# Altium integrated library Control_Board_Model_C201.IntLib: 169 symbols (part 4 of 6)
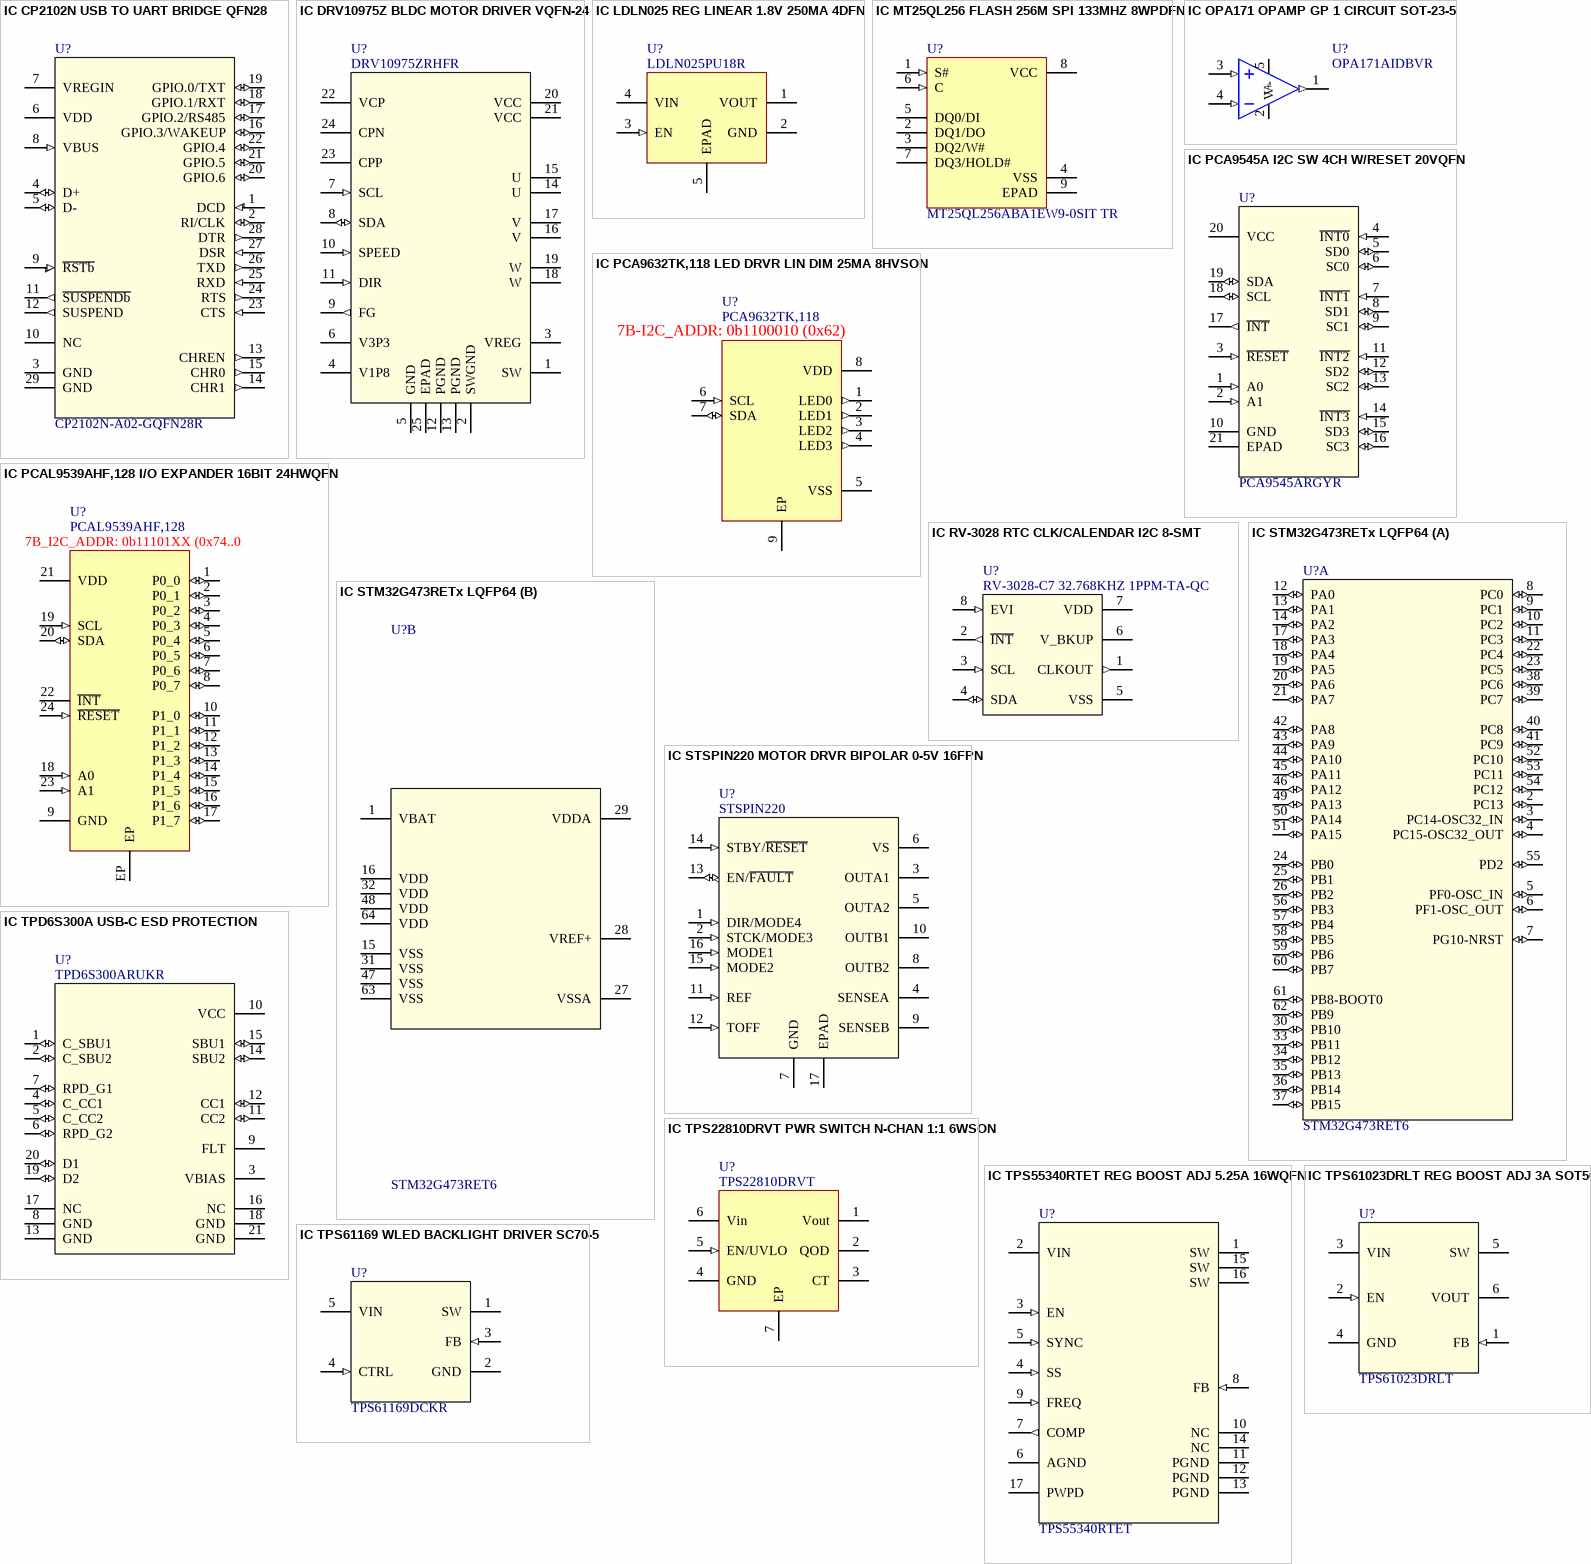
[diagram p8: symbols IC CP2102N USB TO UART BRIDGE QFN28 to IC TPS61169 WLED BACKLIGHT DRIVER SC70-5]

## IC TPS61023DRLT REG BOOST ADJ 3A SOT563
designator U?, comment TPS61023DRLT
Boost Switching Regulator IC Positive Adjustable 2.2V 1 Output 3A SOT-563, SOT-666; Manufacturer: Texas Instruments; Input Voltage: 0.5 V to 5.5 V; Input Voltage MAX: 5.5 V; Output Current: 3.7 A; Output Voltage: 2.2 V to 5.5 V; Quiescent Current: 0.9 uA; Switching Frequency: 1 MHz; Development Kit: TPS61023EVM-052; Input Voltage MIN: 0.5 V; Product Status: New Product; Supplier 1: Mouser; Manufacturer Part Number: TPS61023DRLT; RoHS: RoHS Compliant; Category: Switching Voltage Regulators; Stock 1: 196; Pricing 1: 1=1.07, 10=0.902, 100=0.693, 250=0.612, 500=0.580, 1000=0.451, 2500=0.429, 5000=0.413, 10000=0.400 (USD); Height: 0.55 mm; Length: 1.6 mm; Number of Outputs: 1 Output; Package / Case: SOT-5X3-6; Packaging: Cut Tape; Series: TPS61023; Width: 1.2 mm; Brand: Texas Instruments; Mounting Style: SMD/SMT; Shutdown: Shutdown; Topology: Boost; Maximum Operating Temperature: + 125 C; Minimum Operating Temperature: - 40 C; Product Type: Switching Voltage Regulators; Standard Pack Qty: 250; Subcategory: PMIC - Power Management ICs; Supply Voltage - Min: 0.5 V; RoHS - Mouser: Y; Minimum Order Quantity: 1; Reeling: True; Supplier 2: Digi-Key; Supplier Part Number 1: 595-TPS61023DRLT; Supplier Part Number 2: 296-TPS61023DRLTCT-ND; Mount: Surface Mount
footprint SOT50P160X60-6N (Footprint not found)
pins: 1 FB (in), 2 EN (in), 3 VIN (power), 4 GND (power), 5 SW (power), 6 VOUT (power)

## IC TPS61169 WLED BACKLIGHT DRIVER SC70-5
designator U?, comment TPS61169DCKR
LED Driver IC 1 Output DC DC Regulator Step-Up (Boost) PWM Dimming 1.8A (Switch) SC-70-5; Manufacturer: Texas Instruments; Number of Outputs: 1; Output Current: 400mA; Output Voltage: 38V; Max Output Current: 2.4A; Switching Frequency: 1.2MHz; Max Input Voltage: 5.5V; Min Input Voltage: 2.7V; Output Type: Frequency; Nominal Input Voltage (DC): 3.6V; Supplier 1: Digi-Key; Manufacturer Part Number: TPS61169DCKR; Stock 1: 112915; Pricing 1: 1=0.9, 10=0.805, 25=0.7644, 100=0.587, 250=0.5187, 500=0.4914, 1000=0.3822 (USD); Case/Package: SC; Number of Pins: 5; Min Operating Temperature: -40°C; Max Operating Temperature: 85°C; Packaging: Tape and Reel; Package Quantity: 3000; Min Output Voltage: 2.7V; Max Output Voltage: 38V; Topology: Boost; Lead Free: Lead Free; REACH SVHC: No SVHC; ComponentLink1URL: http://www.ti.com/general/docs/lit/getliterature.tsp?genericPartNumber=TPS61169&&fileType=pdf&src-supplier=Element14; ComponentLink1Description: http://www.ti.com/general/docs/lit/getliterature.tsp?genericPartNumber=TPS61169&&fileType=pdf&src-supplier=Element14; ComponentLink2URL: http://www.ti.com/general/docs/lit/getliterature.tsp?genericPartNumber=TPS61169&amp;&amp;fileType=pdf&src-supplier=Farnell; ComponentLink2Description: http://www.ti.com/general/docs/lit/getliterature.tsp?genericPartNumber=TPS61169&amp;&amp;fileType=pdf&src-supplier=Farnell; ComponentLink3URL: http://www.ti.com/lit/ds/symlink/tps61169.pdf?src-supplier=Digi-Key; ComponentLink3Description: http://www.ti.com/lit/ds/symlink/tps61169.pdf?src-supplier=Digi-Key; ComponentLink4URL: http://www.ti.com/general/docs/lit/getliterature.tsp?genericPartNumber=TPS61169&&fileType=pdf&src-supplier=Avnet; ComponentLink4Description: http://www.ti.com/general/docs/lit/getliterature.tsp?genericPartNumber=TPS61169&&fileType=pdf&src-supplier=Avnet; Supplier Part Number 1: 296-40821-1-ND; Mount: Surface Mount; Weight: 0.000705oz; Contact Plating: Gold; Number of Channels: 1; Max Supply Voltage: 5.5V; Output Current per Channel: 1.8A; Frequency: 1.2MHz; Max Input Voltage (DC): 5.5V; Dimming: PWM; Length: 2mm; Height: 1.1mm; Width: 1.25mm; ComponentLink5URL: http://www.ti.com/lit/gpn/tps61169?src-supplier=Mouser; ComponentLink5Description: http://www.ti.com/lit/gpn/tps61169?src-supplier=Mouser
footprint DCK0005A_L
pins: 1 SW (power), 2 GND (power), 3 FB (in), 4 CTRL (in), 5 VIN (power)

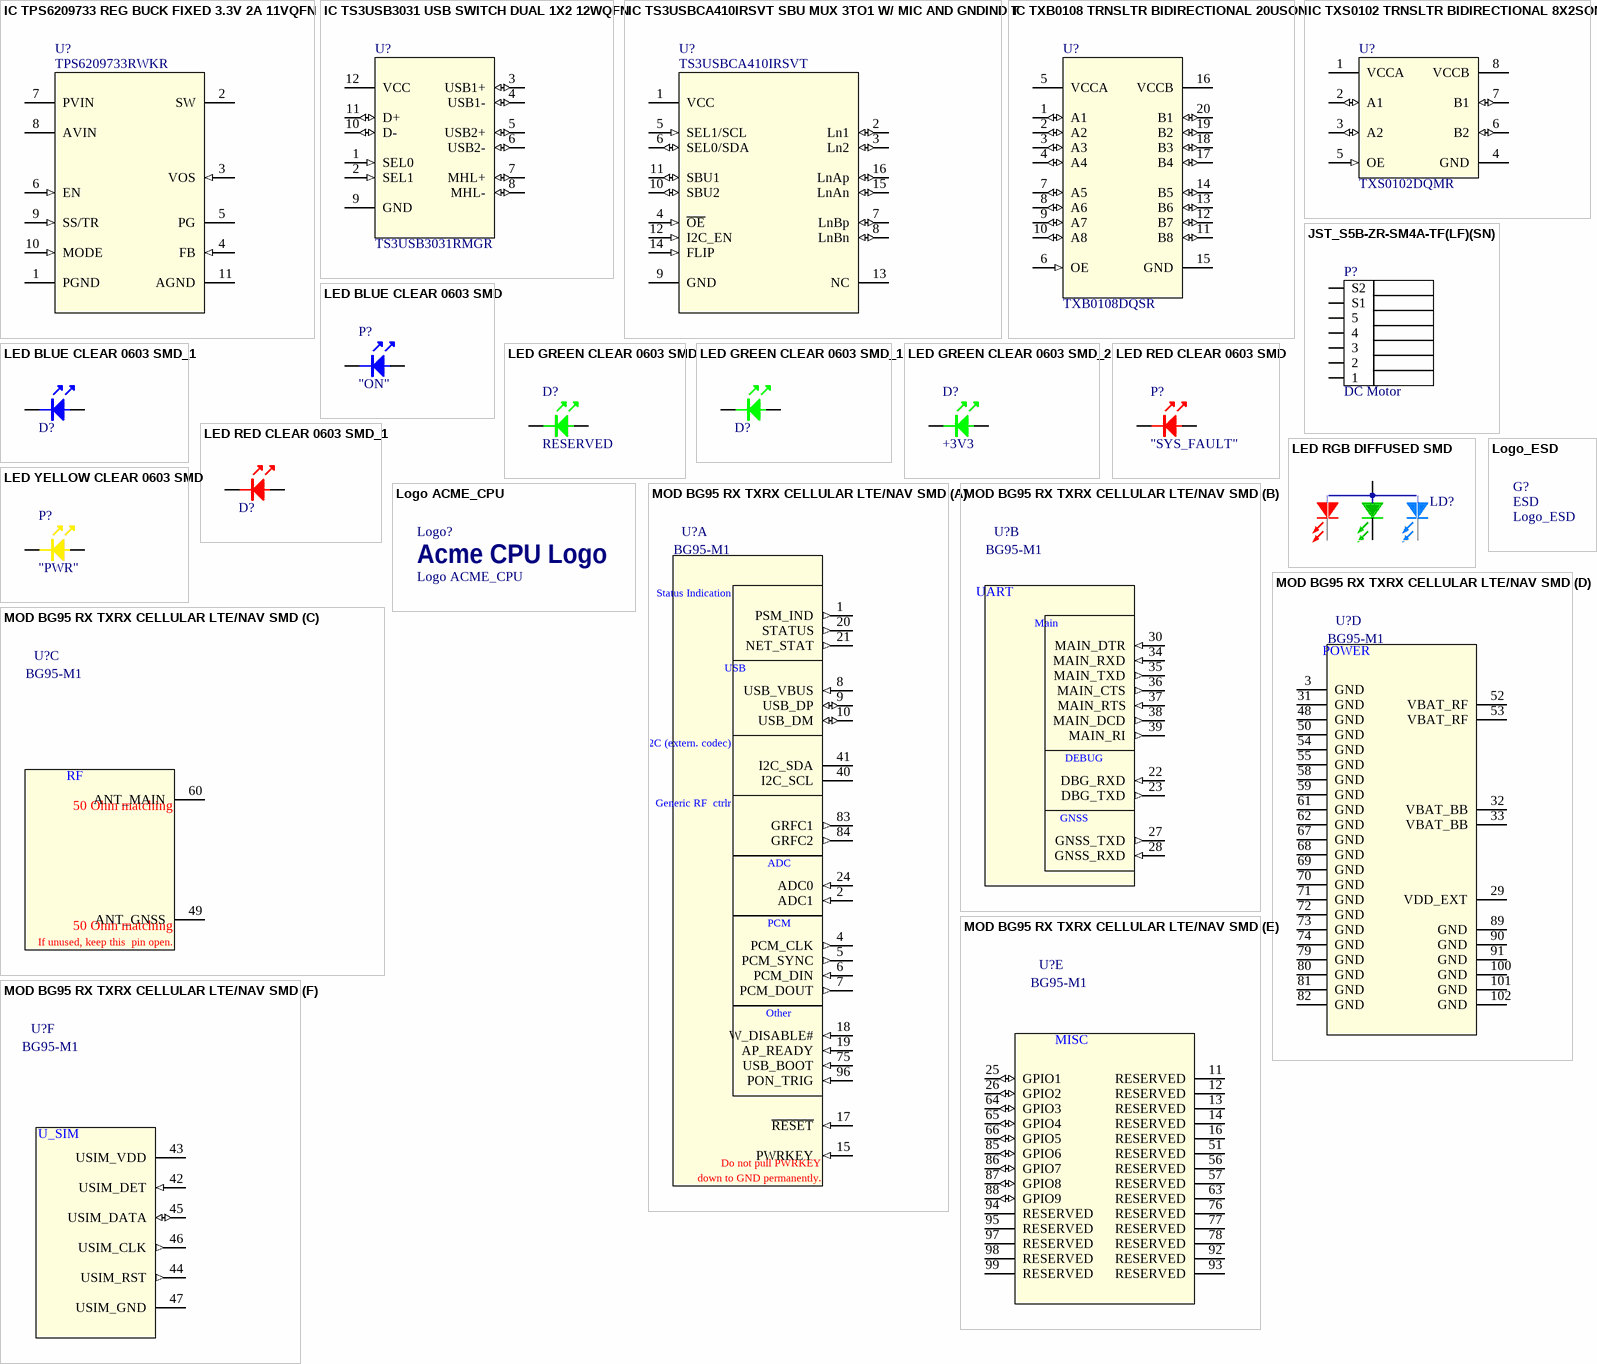
[diagram p3: symbols IC TPS6209733 REG BUCK FIXED 3.3V 2A 11VQFN to MOD BG95 RX TXRX CELLULAR LTE/NAV SMD]

## IC TPS6209733 REG BUCK FIXED 3.3V 2A 11VQFN
designator U?, comment TPS6209733RWKR
Buck Switching Regulator IC Positive Fixed 3.3V 1 Output 2A 11-VFQFN; Manufacturer: Texas Instruments; Number of Outputs: 1; Max Input Voltage: 6V; Min Input Voltage: 2.5V; Switching Frequency: 2.5MHz; Synchronous Rectifier: Yes; Quiescent Current: 40uA; ComponentLink1URL: http://www.ti.com/lit/gpn/tps62097?src-supplier=Mouser; ComponentLink1Description: http://www.ti.com/lit/gpn/tps62097?src-supplier=Mouser; Supplier 1: Digi-Key; Manufacturer Part Number: TPS6209733RWKR; Stock 1: 1536; Pricing 1: 1=1.74, 10=1.561, 100=1.1783, 500=1.0016, 1000=0.7954 (USD); Number of Pins: 11; Min Operating Temperature: -40°C; Max Operating Temperature: 125°C; Packaging: Tape and Reel; Output Current: 2A; Min Output Voltage: 3.3V; Output Type: Fixed; Output Configuration: Positive; Lead Free: Lead Free; Supplier Part Number 1: 296-49007-1-ND; Mount: Surface Mount; Case/Package: VQFN; ComponentLink2URL: http://www.ti.com/lit/ds/symlink/tps62097.pdf?src-supplier=Digi-Key; ComponentLink2Description: http://www.ti.com/lit/ds/symlink/tps62097.pdf?src-supplier=Digi-Key
footprint RWK11
pins: 1 PGND (power), 2 SW (power), 3 VOS (in), 4 FB (in), 5 PG (oc), 6 EN (in), 7 PVIN (power), 8 AVIN (power), 9 SS/TR (in), 10 MODE (in), 11 AGND (power)

## IC TS3USB3031 USB SWITCH DUAL 1X2 12WQFN
designator U?, comment TS3USB3031RMGR
USB Switch IC 1 Channel 12-WQFN (1.8x1.8); Manufacturer: Texas Instruments; Bandwidth: 6.5 GHz; Configuration: 1 x DP3T; Off Time - Max: 0.1 ns; On Resistance - Max: 7 Ohms; On Time - Max: 100 us; Development Kit: TS3USB3031EVM; Number of Switches: 2 Switch; Operating Supply Current: 40 uA; Operating Supply Voltage: 2.5 V; Supply Voltage - Max: 4.3 V; Switch Continuous Current: 60 mA; Supplier 1: Mouser; Manufacturer Part Number: TS3USB3031RMGR; RoHS: RoHS Compliant; Category: USB Switch ICs; Stock 1: 14547; Pricing 1: 1=1.16, 10=0.980, 100=0.753, 250=0.666, 500=0.630, 1000=0.490, 3000=0.466, 6000=0.448, 9000=0.434 (USD); Package / Case: WQFN-12; Packaging: Cut Tape; Product: USB 2.0, MHL, MyDP Switches; Series: TS3USB3031; Brand: Texas Instruments; Mounting Style: SMD/SMT; Maximum Operating Temperature: + 85 C; Minimum Operating Temperature: - 40 C; Product Type: USB Switch ICs; Standard Pack Qty: 3000; Subcategory: Switch ICs; Supply Voltage - Min: 2.5 V; RoHS - Mouser: Y; Minimum Order Quantity: 1; Reeling: True; ComponentLink1URL: https://www.ti.com/lit/gpn/ts3usb3031; ComponentLink1Description: Data sheet; Supplier 2: Digi-Key; Supplier Part Number 1: 595-TS3USB3031RMGR; Supplier Part Number 2: 296-41018-1-ND; Mount: Surface Mount
footprint RMG12_TEX
pins: 1 SEL0 (in), 2 SEL1 (in), 3 USB1+ (io), 4 USB1- (io), 5 USB2+ (io), 6 USB2- (io), 7 MHL+ (io), 8 MHL- (io), 9 GND (power), 10 D- (io), 11 D+ (io), 12 VCC (power)

## IC TS3USBCA410IRSVT SBU MUX 3TO1 W/ MIC AND GNDIND T
designator U?, comment TS3USBCA410IRSVT
USB Switch IC 1 Channel 16-UQFN (2.6x1.8); Manufacturer: Texas Instruments; Number of Channels: 3; Supplier 1: Digi-Key; Manufacturer Part Number: TS3USBCA410IRSVT; Stock 1: 250; Pricing 1: 1=1.07, 10=0.959, 25=0.91, 100=0.6988 (USD); ComponentLink1URL: https://www.ti.com/lit/gpn/ts3usbca4; ComponentLink1Description: Datasheet; Supplier Part Number 1: 296-52158-1-ND; Min Operating Temperature: -40°C; Max Operating Temperature: 85°C; Mount: Surface Mount
footprint RSV16_TEX
pins: 1 VCC (power), 2 Ln1 (io), 3 Ln2 (io), 4 ~{OE} (in), 5 SEL1/SCL (in), 6 SEL0/SDA (io), 7 LnBp (io), 8 LnBn (io), 9 GND (power), 10 SBU2 (io), 11 SBU1 (io), 12 I2C_EN (in), 13 NC, 14 FLIP (in), 15 LnAn (io), 16 LnAp (io)

## IC TXB0108 TRNSLTR BIDIRECTIONAL 20USON
designator U?, comment TXB0108DQSR
Voltage Level Translator Bidirectional 1 Circuit 8 Channel 100Mbps 20-USON (4x2); Manufacturer: Texas Instruments; Propagation Delay: 4ns; Min Supply Voltage: 1.2V; Max Supply Voltage: 5.5V; Number of Channels: 8; High Level Output Current: -20uA; Low Level Output Current: 20uA; Turn-On Delay Time: 35.6ns; Quiescent Current: 3.5uA; Supplier 1: Digi-Key; Manufacturer Part Number: TXB0108DQSR; Stock 1: 18752; Pricing 1: 1=1.29, 10=1.151, 25=1.092, 100=0.897, 250=0.8385, 500=0.741, 1000=0.585 (USD); Mount: Surface Mount; Number of Pins: 20; Min Operating Temperature: -40°C; Max Operating Temperature: 85°C; Data Rate: 100Mbps; Packaging: Tape and Reel; Package Quantity: 1; Logic Function: Translator; Number of Bits: 8; Number of Inputs: 8; Radiation Hardening: No; Lead Free: Lead Free; REACH SVHC: No SVHC; ComponentLink1URL: http://www.ti.com/general/docs/lit/getliterature.tsp?genericPartNumber=TXB0108&amp;&amp;fileType=pdf&src-supplier=Element14; ComponentLink1Description: http://www.ti.com/general/docs/lit/getliterature.tsp?genericPartNumber=TXB0108&amp;&amp;fileType=pdf&src-supplier=Element14; ComponentLink2URL: http://www.ti.com/general/docs/suppproductinfo.tsp?distId=10&gotoUrl=http%3A%2F%2Fwww.ti.com%2Flit%2Fgpn%2Ftxb0108&src-supplier=Digi-Key; ComponentLink2Description: http://www.ti.com/general/docs/suppproductinfo.tsp?distId=10&gotoUrl=http%3A%2F%2Fwww.ti.com%2Flit%2Fgpn%2Ftxb0108&src-supplier=Digi-Key; ComponentLink3URL: http://www.ti.com/lit/ds/symlink/txb0108.pdf?src-supplier=Avnet+Europe; ComponentLink3Description: http://www.ti.com/lit/ds/symlink/txb0108.pdf?src-supplier=Avnet+Europe; ComponentLink4URL: http://www.ti.com/general/docs/lit/getliterature.tsp?genericPartNumber=TXB0108&&fileType=pdf&src-supplier=Avnet; ComponentLink4Description: http://www.ti.com/general/docs/lit/getliterature.tsp?genericPartNumber=TXB0108&&fileType=pdf&src-supplier=Avnet; Supplier Part Number 1: 296-27217-1-ND
footprint DQS20_TEX
pins: 1 A1 (io), 2 A2 (io), 3 A3 (io), 4 A4 (io), 5 VCCA (power), 6 OE (in), 7 A5 (io), 8 A6 (io), 9 A7 (io), 10 A8 (io), 11 B8 (io), 12 B7 (io), 13 B6 (io), 14 B5 (io), 15 GND (power), 16 VCCB (power), 17 B4 (io), 18 B3 (io), 19 B2 (io), 20 B1 (io)

## IC TXS0102 TRNSLTR BIDIRECTIONAL 8X2SON
designator U?, comment TXS0102DQMR
2-Bit Bidirectional Voltage-Level Translator for Open-Drain Application; Manufacturer: Texas Instruments; Max Supply Voltage: 5.5V; Min Supply Voltage: 1.65V; Propagation Delay: 260ns; Data Rate: 24Mbps; Number of Channels: 2; Turn-On Delay Time: 4.6ns; Low Level Output Current: 1mA; High Level Output Current: -20uA; Quiescent Current: 14.4uA; Supplier 1: Digi-Key; Manufacturer Part Number: TXS0102DQMR; Stock 1: 53273; Pricing 1: 1=0.69, 10=0.611, 25=0.5736, 100=0.4681, 250=0.4348, 500=0.37, 1000=0.296 (USD); Mount: Surface Mount; Number of Pins: 8; Contact Plating: Gold; Min Operating Temperature: -40°C; Max Operating Temperature: 85°C; Packaging: Tape and Reel; Package Quantity: 1; Logic Function: Translator; Number of Bits: 2; Number of Inputs: 2; Output Type: Voltage; Length: 1.85mm; Height: 0.35mm; Width: 1.25mm; Radiation Hardening: No; REACH SVHC: No SVHC; Lead Free: Lead Free; ComponentLink1URL: https://www.verical.com/server-webapp/html/getDatasheet?partID=544149&src-supplier=Verical; ComponentLink1Description: https://www.verical.com/server-webapp/html/getDatasheet?partID=544149&src-supplier=Verical; ComponentLink2URL: http://www.ti.com/general/docs/suppproductinfo.tsp?distId=10&gotoUrl=http%3A%2F%2Fwww.ti.com%2Flit%2Fgpn%2Ftxs0102&src-supplier=Digi-Key; ComponentLink2Description: http://www.ti.com/general/docs/suppproductinfo.tsp?distId=10&gotoUrl=http%3A%2F%2Fwww.ti.com%2Flit%2Fgpn%2Ftxs0102&src-supplier=Digi-Key; Supplier Part Number 1: 296-28435-1-ND
footprint DQM8
pins: 1 VCCA (power), 2 A1 (io), 3 A2 (io), 4 GND (power), 5 OE (in), 6 B2 (io), 7 B1 (io), 8 VCCB (power)

## JST_S5B-ZR-SM4A-TF(LF)(SN)
designator P?, comment DC Motor
Connector Header Through Hole, Right Angle 4 position 0.059" (1.50mm); Manufacturer: JST; Manufacturer Part Number: S5B-ZR-SM4A-TF(LF)(SN); Body Plating: Tin; Number of Positions: 4; Connector Type: Header,Male Pin; Voltage Rating: 50V; Contact Resistance: 30mR; Max Current Rating: 1A; Insulation Resistance: 500MR; Gender: Male; Pitch: 1.5mm; Panel Thickness: 3.5mm; Supplier 1: Arrow; Stock 1: 0; Mount: SMT; Number of Pins: 4; Color: White; Contact Plating: Tin,Copper; Contact Material: Brass,Tin,Copper; Material: Nylon; Housing Color: Beige; Housing Material: Polyamide; Contact Shape: Circular; Insulation Material: Nylon; Insulation Color: Natural; Min Operating Temperature: -25°C; Max Operating Temperature: 85°C; Packaging: Bulk; Number of Rows: 1; Termination: Solder; Voltage Rating (DC): 50V; Current Rating: 1A; Voltage Rating (AC): 50V; Fastening Type: Detent; Max Voltage Rating (AC): 50V; Max Voltage Rating (DC): 50V; Number of Contacts: 4; Orientation: Right Angle; Length: 7.5mm; Height: 7.2mm; Width: 3.5mm; Depth: 6mm; Lead Pitch: 1.5mm; Contact Mating Length: 0.094inch; REACH SVHC: No SVHC; Lead Free: Lead Free; Flammability Rating: UL94 V-0; ComponentLink1URL: https://www.verical.com/server-webapp/html/getDatasheet?partID=763273&src-supplier=Verical; ComponentLink1Description: https://www.verical.com/server-webapp/html/getDatasheet?partID=763273&src-supplier=Verical; ComponentLink2URL: https://www.verical.com/server-webapp/html/getDatasheet?partID=640380&src-supplier=Verical; ComponentLink2Description: https://www.verical.com/server-webapp/html/getDatasheet?partID=640380&src-supplier=Verical; ComponentLink3URL: http://www1.futureelectronics.com/doc/JST/S4B-ZR(LF)(SN).pdf?src-supplier=Future+Electronics; ComponentLink3Description: http://www1.futureelectronics.com/doc/JST/S4B-ZR(LF)(SN).pdf?src-supplier=Future+Electronics; ComponentLink4URL: http://www.jst-mfg.com/product/pdf/eng/eZH.pdf?src-supplier=Digi-Key; ComponentLink4Description: http://www.jst-mfg.com/product/pdf/eng/eZH.pdf?src-supplier=Digi-Key; ComponentLink5URL: http://www.farnell.com/datasheets/80556.pdf?src-supplier=Element14; ComponentLink5Description: http://www.farnell.com/datasheets/80556.pdf?src-supplier=Element14; ComponentLink6URL: https://www.verical.com/server-webapp/html/getDatasheet?partID=703398&src-supplier=Verical; ComponentLink6Description: https://www.verical.com/server-webapp/html/getDatasheet?partID=703398&src-supplier=Verical; Supplier Part Number 1: S4B-ZR(LF)(SN)
footprint JST_S5B-ZR-SM4A-TF(LF)(SN); pin to pad 6>S1 7>S2
pins: 1, 2, 3, 4, 5, 6 S1, 7 S2

## LED BLUE CLEAR 0603 SMD
designator P?, comment "ON"
Blue 470nm LED Indication - Discrete 3.3V 0603 (1608 Metric); Manufacturer: Vishay Lite-On; Manufacturer Part Number: LTST-C191TBKT; Lens Style: Diffused,Colorless,Clear,Rectangular; Lens Transparency: Clear; Luminous Intensity: 180mcd; Forward Voltage: 3.8V; Test Current: 20mA; Viewing Angle: 130°; Dominant Wavelength: 475nm; Lens Color: Colorless; Number of Elements: 1; Power Dissipation: 76mW; Wavelength: 468nm; Reverse Voltage: 5V; Max Power Dissipation: 75mW; Supplier 1: Digi-Key; Stock 1: 239244; Pricing 1: 1=0.48, 10=0.342, 100=0.152, 500=0.1064, 1000=0.0874, 2500=0.076 (USD); Mount: Surface Mount; Case Code (Imperial): 0603; Case Code (Metric): 1608; Packaging: Tape and Reel; Length: 0.8mm; Height: 0.55mm; Width: 0.8mm; ComponentLink1URL: http://optoelectronics.liteon.com/upload/download/DS22-2000-230/LTST-C191TBKT.pdf?src-supplier=Digi-Key; ComponentLink1Description: http://optoelectronics.liteon.com/upload/download/DS22-2000-230/LTST-C191TBKT.pdf?src-supplier=Digi-Key; Supplier Part Number 1: 160-1647-1-ND; Number of Pins: 2; Min Operating Temperature: -20°C; Max Operating Temperature: 80°C; Forward Current: 20mA; Package Quantity: 1; Illumination Color: Blue; Number of LEDs: 1; Depth: 1.6mm; Radiation Hardening: No; Lead Free: Lead Free; Case/Package: 0603; Color: Blue; ComponentLink2URL: http://optoelectronics.liteon.com/upload/download/DS22-2000-230/LTST-C191TBKT.pdf?src-supplier=Verical; ComponentLink2Description: http://optoelectronics.liteon.com/upload/download/DS22-2000-230/LTST-C191TBKT.pdf?src-supplier=Verical; ComponentLink3URL: http://optoelectronics.liteon.com/upload/download/DS22-2000-230/LTST-C191TBKT.pdf?src-supplier=Mouser; ComponentLink3Description: http://optoelectronics.liteon.com/upload/download/DS22-2000-230/LTST-C191TBKT.pdf?src-supplier=Mouser; ComponentLink4URL: http://www1.futureelectronics.com/doc/LITE-ON/LTST-C191TBKT.pdf?src-supplier=Future+Electronics; ComponentLink4Description: http://www1.futureelectronics.com/doc/LITE-ON/LTST-C191TBKT.pdf?src-supplier=Future+Electronics; ComponentLink5URL: http://optoelectronics.liteon.com/upload/download/DS22-2000-230/LTST-C191TBKT.pdf?src-supplier=Jameco; ComponentLink5Description: http://optoelectronics.liteon.com/upload/download/DS22-2000-230/LTST-C191TBKT.pdf?src-supplier=Jameco; ComponentLink6URL: http://uk.rs-online.com/webdocs/0dc0/0900766b80dc02b4.pdf?src-supplier=RSComponents; ComponentLink6Description: http://uk.rs-online.com/webdocs/0dc0/0900766b80dc02b4.pdf?src-supplier=RSComponents; ComponentLink7URL: http://datasheet.iiic.cc/lite-on/LTST-C191TBKT.pdf?src-supplier=IIIC; ComponentLink7Description: http://datasheet.iiic.cc/lite-on/LTST-C191TBKT.pdf?src-supplier=IIIC
footprint LED_0603 (LED Indication - Discrete 0603)
pins: 1 K, 2 A

## LED BLUE CLEAR 0603 SMD_1
designator D?, comment LED BLUE CLEAR 0603 SMD  (value not drawn)
Blue 470nm LED Indication - Discrete 3.3V 0603 (1608 Metric); Manufacturer: Vishay Lite-On; Manufacturer Part Number: LTST-C191TBKT; Lens Color: Colorless; Luminous Intensity: 180mcd; Viewing Angle: 130°; Forward Voltage: 3.8V; Dominant Wavelength: 475nm; Test Current: 20mA; Wavelength: 468nm; Lens Style: Diffused,Colorless,Clear,Rectangular; Number of Elements: 1; Power Dissipation: 76mW; Reverse Voltage: 5V; Max Power Dissipation: 75mW; Supplier 1: Digi-Key; Supplier Part Number 1: 160-1647-1-ND; Stock 1: 239244; Pricing 1: 1=0.48, 10=0.342, 100=0.152, 500=0.1064, 1000=0.0874, 2500=0.076 (USD); Mount: Surface Mount; Number of Pins: 2; Case Code (Metric): 1608; Case Code (Imperial): 0603; Min Operating Temperature: -20°C; Max Operating Temperature: 80°C; Packaging: Tape and Reel; Package Quantity: 1; Lens Transparency: Clear; Forward Current: 20mA; Illumination Color: Blue; Number of LEDs: 1; Length: 0.8mm; Height: 0.55mm; Width: 0.8mm; Depth: 1.6mm; Radiation Hardening: No; Lead Free: Lead Free; ComponentLink1URL: http://optoelectronics.liteon.com/upload/download/DS22-2000-230/LTST-C191TBKT.pdf?src-supplier=Digi-Key; ComponentLink1Description: http://optoelectronics.liteon.com/upload/download/DS22-2000-230/LTST-C191TBKT.pdf?src-supplier=Digi-Key; Case/Package: 0603; Color: Blue; ComponentLink2URL: http://optoelectronics.liteon.com/upload/download/DS22-2000-230/LTST-C191TBKT.pdf?src-supplier=Verical; ComponentLink2Description: http://optoelectronics.liteon.com/upload/download/DS22-2000-230/LTST-C191TBKT.pdf?src-supplier=Verical; ComponentLink3URL: http://optoelectronics.liteon.com/upload/download/DS22-2000-230/LTST-C191TBKT.pdf?src-supplier=Mouser; ComponentLink3Description: http://optoelectronics.liteon.com/upload/download/DS22-2000-230/LTST-C191TBKT.pdf?src-supplier=Mouser; ComponentLink4URL: http://www1.futureelectronics.com/doc/LITE-ON/LTST-C191TBKT.pdf?src-supplier=Future+Electronics; ComponentLink4Description: http://www1.futureelectronics.com/doc/LITE-ON/LTST-C191TBKT.pdf?src-supplier=Future+Electronics; ComponentLink5URL: http://optoelectronics.liteon.com/upload/download/DS22-2000-230/LTST-C191TBKT.pdf?src-supplier=Jameco; ComponentLink5Description: http://optoelectronics.liteon.com/upload/download/DS22-2000-230/LTST-C191TBKT.pdf?src-supplier=Jameco; ComponentLink6URL: http://uk.rs-online.com/webdocs/0dc0/0900766b80dc02b4.pdf?src-supplier=RSComponents; ComponentLink6Description: http://uk.rs-online.com/webdocs/0dc0/0900766b80dc02b4.pdf?src-supplier=RSComponents; ComponentLink7URL: http://datasheet.iiic.cc/lite-on/LTST-C191TBKT.pdf?src-supplier=IIIC; ComponentLink7Description: http://datasheet.iiic.cc/lite-on/LTST-C191TBKT.pdf?src-supplier=IIIC
footprint LED_0603 (LED Indication - Discrete 0603)
pins: 1 K, 2 A

## LED GREEN CLEAR 0603 SMD
designator D?, comment RESERVED
Green 571nm LED Indication - Discrete 2V 0603 (1608 Metric); Manufacturer: Vishay Lite-On; Manufacturer Part Number: LTST-C191KGKT; Lens Style: Rectangular,Colorless; Lens Transparency: Clear; Luminous Intensity: 35mcd; Test Current: 20mA; Viewing Angle: 130°; Lens Color: Colorless; Forward Current: 30mA; Number of Elements: 1; Power Dissipation: 75mW; Wavelength: 574nm; Reverse Voltage: 5V; Supplier 1: Digi-Key; Stock 1: 788359; Pricing 1: 1=0.28, 10=0.201, 100=0.0954, 500=0.0636, 1000=0.0498, 2500=0.0488 (USD); Mount: Surface Mount; Case Code (Imperial): 0603; Case Code (Metric): 1608; Packaging: Tape and Reel; Forward Voltage: 2V; Dominant Wavelength: 571nm; Length: 1.6mm; Height: 0.55mm; Width: 0.8mm; ComponentLink1URL: http://optoelectronics.liteon.com/upload/download/DS22-2000-228/LTST-C191KGKT.PDF?src-supplier=Digi-Key; ComponentLink1Description: http://optoelectronics.liteon.com/upload/download/DS22-2000-228/LTST-C191KGKT.PDF?src-supplier=Digi-Key; Supplier Part Number 1: 160-1446-6-ND; Number of Pins: 2; Min Operating Temperature: -55°C; Max Operating Temperature: 85°C; Package Quantity: 1; Illumination Color: Green; Number of LEDs: 1; Depth: 0.8mm; Radiation Hardening: No; Lead Free: Lead Free; Power Rating: 75mW; Max Power Dissipation: 75mW
footprint LED_0603 (LED Indication - Discrete 0603)
pins: 1 K, 2 A

## LED GREEN CLEAR 0603 SMD_1
designator D?, comment LED GREEN CLEAR 0603 SMD  (value not drawn)
Green 571nm LED Indication - Discrete 2V 0603 (1608 Metric); Manufacturer: Vishay Lite-On; Manufacturer Part Number: LTST-C191KGKT; Lens Color: Colorless; Luminous Intensity: 35mcd; Viewing Angle: 130°; Test Current: 20mA; Wavelength: 574nm; Lens Style: Rectangular,Colorless; Forward Current: 30mA; Number of Elements: 1; Power Dissipation: 75mW; Reverse Voltage: 5V; Supplier 1: Digi-Key; Supplier Part Number 1: 160-1446-6-ND; Stock 1: 788359; Pricing 1: 1=0.28, 10=0.201, 100=0.0954, 500=0.0636, 1000=0.0498, 2500=0.0488 (USD); Mount: Surface Mount; Number of Pins: 2; Case Code (Metric): 1608; Case Code (Imperial): 0603; Min Operating Temperature: -55°C; Max Operating Temperature: 85°C; Packaging: Tape and Reel; Package Quantity: 1; Forward Voltage: 2V; Dominant Wavelength: 571nm; Lens Transparency: Clear; Illumination Color: Green; Number of LEDs: 1; Power Rating: 75mW; Max Power Dissipation: 75mW; Length: 1.6mm; Height: 0.55mm; Width: 0.8mm; Depth: 0.8mm; Radiation Hardening: No; Lead Free: Lead Free; ComponentLink1URL: http://optoelectronics.liteon.com/upload/download/DS22-2000-228/LTST-C191KGKT.PDF?src-supplier=Digi-Key; ComponentLink1Description: http://optoelectronics.liteon.com/upload/download/DS22-2000-228/LTST-C191KGKT.PDF?src-supplier=Digi-Key
footprint LED_0603 (LED Indication - Discrete 0603)
pins: 1 K, 2 A

## LED GREEN CLEAR 0603 SMD_2
designator D?, comment +3V3
Green 571nm LED Indication - Discrete 2V 0603 (1608 Metric); Manufacturer: Vishay Lite-On; Manufacturer Part Number: LTST-C191KGKT; Lens Color: Colorless; Luminous Intensity: 35mcd; Viewing Angle: 130°; Test Current: 20mA; Lens Transparency: Clear; Wavelength: 574nm; Lens Style: Rectangular,Colorless; Forward Current: 30mA; Number of Elements: 1; Power Dissipation: 75mW; Reverse Voltage: 5V; Supplier 1: Digi-Key; Supplier Part Number 1: 160-1446-6-ND; Stock 1: 788359; Pricing 1: 1=0.28, 10=0.201, 100=0.0954, 500=0.0636, 1000=0.0498, 2500=0.0488 (USD); Mount: Surface Mount; Number of Pins: 2; Case Code (Metric): 1608; Case Code (Imperial): 0603; Min Operating Temperature: -55°C; Max Operating Temperature: 85°C; Packaging: Tape and Reel; Package Quantity: 1; Forward Voltage: 2V; Dominant Wavelength: 571nm; Illumination Color: Green; Number of LEDs: 1; Power Rating: 75mW; Max Power Dissipation: 75mW; Length: 1.6mm; Height: 0.55mm; Width: 0.8mm; Depth: 0.8mm; Radiation Hardening: No; Lead Free: Lead Free; ComponentLink1URL: http://optoelectronics.liteon.com/upload/download/DS22-2000-228/LTST-C191KGKT.PDF?src-supplier=Digi-Key; ComponentLink1Description: http://optoelectronics.liteon.com/upload/download/DS22-2000-228/LTST-C191KGKT.PDF?src-supplier=Digi-Key
footprint LED_0603 (LED Indication - Discrete 0603)
pins: 1 K, 2 A

## LED RED CLEAR 0603 SMD
designator P?, comment "SYS_FAULT"
Red 631nm LED Indication - Discrete 2V 0603 (1608 Metric); Manufacturer: Vishay Lite-On; Manufacturer Part Number: LTST-C191KRKT; Lens Style: Clear,Diffused,Colorless,Rectangular; Lens Transparency: Clear; Luminous Intensity: 54mcd; Test Current: 20mA; Viewing Angle: 130°; Lens Color: Colorless; Forward Current: 30mA; Number of Elements: 1; Power Dissipation: 75mW; Wavelength: 639nm; Reverse Voltage: 5V; Supplier 1: Digi-Key; Stock 1: 230321; Pricing 1: 1=0.26, 10=0.192, 100=0.0909, 500=0.0606, 1000=0.0475, 2500=0.0465 (USD); Mount: Surface Mount; Case/Package: 0603; Color: Red; Case Code (Imperial): 0603; Case Code (Metric): 1608; Packaging: Tape and Reel; Forward Voltage: 2V; Dominant Wavelength: 631nm; Length: 1.6mm; Height: 0.55mm; Width: 0.8mm; ComponentLink1URL: http://optoelectronics.liteon.com/upload/download/DS22-2000-223/LTST-C191KRKT.PDF?src-supplier=Digi-Key; ComponentLink1Description: http://optoelectronics.liteon.com/upload/download/DS22-2000-223/LTST-C191KRKT.PDF?src-supplier=Digi-Key; ComponentLink2URL: http://www1.futureelectronics.com/doc/LITE-ON/LTST-C191KRKT.pdf?src-supplier=Future+Electronics; ComponentLink2Description: http://www1.futureelectronics.com/doc/LITE-ON/LTST-C191KRKT.pdf?src-supplier=Future+Electronics; ComponentLink3URL: https://www.verical.com/server-webapp/html/getDatasheet?partID=141922&src-supplier=Verical; ComponentLink3Description: https://www.verical.com/server-webapp/html/getDatasheet?partID=141922&src-supplier=Verical; ComponentLink4URL: http://www.mouser.com/ds/2/239/LTST-C191KRKT-1140668.pdf?src-supplier=Mouser; ComponentLink4Description: http://www.mouser.com/ds/2/239/LTST-C191KRKT-1140668.pdf?src-supplier=Mouser; Supplier Part Number 1: 160-1447-1-ND; Number of Pins: 2; Min Operating Temperature: -55°C; Max Operating Temperature: 85°C; Package Quantity: 1; Illumination Color: Red; Number of LEDs: 1; Depth: 0.8mm; Radiation Hardening: No; Lead Free: Lead Free; Power Rating: 75mW; Voltage: 2V
footprint LED_0603 (LED Indication - Discrete 0603)
pins: 1 K, 2 A

## LED RED CLEAR 0603 SMD_1
designator D?, comment LED RED CLEAR 0603 SMD  (value not drawn)
Red 631nm LED Indication - Discrete 2V 0603 (1608 Metric); Manufacturer: Vishay Lite-On; Manufacturer Part Number: LTST-C191KRKT; Lens Color: Colorless; Power Rating: 75mW; Luminous Intensity: 54mcd; Viewing Angle: 130°; Lens Style: Clear,Diffused,Colorless,Rectangular; Forward Current: 30mA; Test Current: 20mA; Number of Elements: 1; Wavelength: 639nm; Reverse Voltage: 5V; Supplier 1: Digi-Key; Stock 1: 230321; Pricing 1: 1=0.26, 10=0.192, 100=0.0909, 500=0.0606, 1000=0.0475, 2500=0.0465 (USD); Mount: Surface Mount; Case/Package: 0603; Number of Pins: 2; Color: Red; Case Code (Metric): 1608; Case Code (Imperial): 0603; Min Operating Temperature: -55°C; Max Operating Temperature: 85°C; Packaging: Tape and Reel; Forward Voltage: 2V; Package Quantity: 1; Illumination Color: Red; Dominant Wavelength: 631nm; Lens Transparency: Clear; Power Dissipation: 75mW; Number of LEDs: 1; Voltage: 2V; Length: 1.6mm; Height: 0.55mm; Width: 0.8mm; Depth: 0.8mm; Radiation Hardening: No; Lead Free: Lead Free; ComponentLink1URL: http://optoelectronics.liteon.com/upload/download/DS22-2000-223/LTST-C191KRKT.PDF?src-supplier=Digi-Key; ComponentLink1Description: http://optoelectronics.liteon.com/upload/download/DS22-2000-223/LTST-C191KRKT.PDF?src-supplier=Digi-Key; ComponentLink2URL: http://www1.futureelectronics.com/doc/LITE-ON/LTST-C191KRKT.pdf?src-supplier=Future+Electronics; ComponentLink2Description: http://www1.futureelectronics.com/doc/LITE-ON/LTST-C191KRKT.pdf?src-supplier=Future+Electronics; ComponentLink3URL: https://www.verical.com/server-webapp/html/getDatasheet?partID=141922&src-supplier=Verical; ComponentLink3Description: https://www.verical.com/server-webapp/html/getDatasheet?partID=141922&src-supplier=Verical; ComponentLink4URL: http://www.mouser.com/ds/2/239/LTST-C191KRKT-1140668.pdf?src-supplier=Mouser; ComponentLink4Description: http://www.mouser.com/ds/2/239/LTST-C191KRKT-1140668.pdf?src-supplier=Mouser; Supplier Part Number 1: 160-1447-1-ND
footprint LED_0603 (LED Indication - Discrete 0603)
pins: 1 K, 2 A

## LED RGB DIFFUSED SMD
designator LD?, comment 150066M153000  (value not drawn)
Red, Green, Blue (RGB) 624nm Red, 525nm Green, 470nm Blue LED Indication - Discrete 2V Red, 3.3V Green, 3.3V Blue 0606 (1616 Metric); Manufacturer: Wurth Electronics; Color: Blue,Green,Red; Lens Style: Flat; Element Configuration: Common Anode; Lens Transparency: Diffused; Luminous Intensity: 180mcd; Test Current: 20mA; Viewing Angle: 120°; Lens Size: 1.6mm; Supplier 1: Digi-Key; Manufacturer Part Number: 150066M153000; Stock 1: 7810; Pricing 1: 1=0.51, 50=0.415, 100=0.298, 500=0.272 (USD); Mount: Surface Mount; Case/Package: 0606; Case Code (Imperial): 0606; Case Code (Metric): 1616; Packaging: Tape and Reel; Forward Voltage: 3.3V; Dominant Wavelength: 470nm; Length: 1.6mm; Height: 0.5mm; Width: 1.6mm; ComponentLink1URL: https://katalog.we-online.de/led/datasheet/150066M153000.pdf?src-supplier=Digi-Key; ComponentLink1Description: https://katalog.we-online.de/led/datasheet/150066M153000.pdf?src-supplier=Digi-Key; ComponentLink2URL: http://www.farnell.com/datasheets/2301702.pdf?src-supplier=Farnell; ComponentLink2Description: http://www.farnell.com/datasheets/2301702.pdf?src-supplier=Farnell; ComponentLink3URL: http://www.farnell.com/datasheets/2301702.pdf?src-supplier=Newark; ComponentLink3Description: http://www.farnell.com/datasheets/2301702.pdf?src-supplier=Newark; ComponentLink4URL: http://www.farnell.com/datasheets/2301702.pdf?src-supplier=Element14; ComponentLink4Description: http://www.farnell.com/datasheets/2301702.pdf?src-supplier=Element14; Supplier Part Number 1: 732-11390-1-ND
footprint LED_0606_RGB_WURTH (Chip; Body 1.6 x 1.6 mm (LxW typ) WURTH)
pins: A, BK, GK, RK

## LED YELLOW CLEAR 0603 SMD
designator P?, comment "PWR"
Yellow 591nm LED Indication - Discrete 2.1V 0603 (1608 Metric); Manufacturer: Vishay Lite-On; Manufacturer Part Number: LTST-C191KSKT; Lens Style: Diffused,Colorless,Rectangular,Clear; Lens Transparency: Clear; Luminous Intensity: 180mcd; Forward Voltage: 2.4V; Test Current: 20mA; Viewing Angle: 130°; Dominant Wavelength: 597nm; Lens Color: Colorless; Forward Current: 30mA; Power Rating: 75mW; Number of Elements: 1; Wavelength: 588nm; Reverse Voltage: 5V; Supplier 1: Digi-Key; Stock 1: 614196; Pricing 1: 1=0.28, 10=0.204, 100=0.0968, 500=0.0645, 1000=0.0505, 2500=0.0495 (USD); Mount: Surface Mount; Case/Package: 0603; Color: Yellow; Case Code (Imperial): 0603; Case Code (Metric): 1608; Packaging: Tape and Reel; Length: 1.6mm; Height: 0.55mm; Width: 0.8mm; ComponentLink1URL: http://optoelectronics.liteon.com/upload/download/DS22-2000-224/LTST-C191KSKT.PDF?src-supplier=Digi-Key; ComponentLink1Description: http://optoelectronics.liteon.com/upload/download/DS22-2000-224/LTST-C191KSKT.PDF?src-supplier=Digi-Key; ComponentLink2URL: https://www.verical.com/server-webapp/html/getDatasheet?partID=141495&src-supplier=Verical; ComponentLink2Description: https://www.verical.com/server-webapp/html/getDatasheet?partID=141495&src-supplier=Verical; ComponentLink3URL: http://www.mouser.com/ds/2/239/LTST-C191KSKT-1141271.pdf?src-supplier=Mouser; ComponentLink3Description: http://www.mouser.com/ds/2/239/LTST-C191KSKT-1141271.pdf?src-supplier=Mouser; ComponentLink4URL: http://www1.futureelectronics.com/doc/LITE%20ON/LITE-ON%20LTST-C191KSKT.pdf?src-supplier=Future+Electronics; ComponentLink4Description: http://www1.futureelectronics.com/doc/LITE%20ON/LITE-ON%20LTST-C191KSKT.pdf?src-supplier=Future+Electronics; Supplier Part Number 1: 160-1448-1-ND; Number of Pins: 2; Min Operating Temperature: -55°C; Max Operating Temperature: 85°C; Package Quantity: 1; Illumination Color: Yellow; Power Dissipation: 75mW; Number of LEDs: 1; Depth: 0.8mm; Radiation Hardening: No; Lead Free: Lead Free
footprint LED_0603 (LED Indication - Discrete 0603)
pins: 1 K, 2 A

## Logo ACME_CPU
designator Logo?  (no BOM)
ClassName: PCB_FEATURE
footprint LOGO_ACME_CPU (Footprint not found)
text: Acme CPU Logo

## Logo_ESD
designator G?  (no BOM)
footprint Logo_ESD (Silk only)
text: ESD

## MOD BG95 RX TXRX CELLULAR LTE/NAV SMD
designator U?, comment BG95-M1
LTE Cat M1, LTE Cat NB2 and EGPRS Transceiver Module Antenna Not Included Surface Mount; Manufacturer: QUECTEL; Part Description: IC MODULE BG95 102-LGA 19.9x23.6mm H2.2mm RO; Geometry.Height: 2.2mm; Value: BG95; Manufacturer Part Number: BG95-M1; PCB DECAL: BG95; Mount: Surface Mount
footprint BG95
part A pins: 1 PSM_IND (out), 2 ADC1 (in), 4 PCM_CLK (out), 5 PCM_SYNC (out), 6 PCM_DIN (in), 7 PCM_DOUT (out), 8 USB_VBUS (in), 9 USB_DP (io), 10 USB_DM (io), 15 PWRKEY (in), 17 ~{RESET} (in), 18 W_DISABLE# (in), 19 AP_READY (in), 20 STATUS (out), 21 NET_STAT (out), 24 ADC0 (in), 40 I2C_SCL, 41 I2C_SDA, 75 USB_BOOT (in), 83 GRFC1 (out), 84 GRFC2 (out), 96 PON_TRIG (in)
part B pins: 22 DBG_RXD (in), 23 DBG_TXD (out), 27 GNSS_TXD (out), 28 GNSS_RXD (in), 30 MAIN_DTR (in), 34 MAIN_RXD (in), 35 MAIN_TXD (out), 36 MAIN_CTS (out), 37 MAIN_RTS (in), 38 MAIN_DCD (out), 39 MAIN_RI (out)
part C pins: 49 ANT_GNSS, 60 ANT_MAIN
part D pins: 3 GND (power), 29 VDD_EXT (power) "If unused, keep this  pin open", 31 GND (power), 32 VBAT_BB (power), 33 VBAT_BB (power), 48 GND (power), 50 GND (power), 52 VBAT_RF (power), 53 VBAT_RF (power), 54 GND (power), 55 GND (power), 58 GND (power), 59 GND (power), 61 GND (power), 62 GND (power), 67 GND (power), 68 GND (power), 69 GND (power), 70 GND (power), 71 GND (power), 72 GND (power), 73 GND (power), 74 GND (power), 79 GND (power), 80 GND (power), 81 GND (power), 82 GND (power), 89 GND (power), 90 GND (power), 91 GND (power), 100 GND (power), 101 GND (power), 102 GND (power)
part E pins: 11 RESERVED, 12 RESERVED, 13 RESERVED, 14 RESERVED, 16 RESERVED, 25 GPIO1 (io), 26 GPIO2 (io), 51 RESERVED, 56 RESERVED, 57 RESERVED, 63 RESERVED, 64 GPIO3 (io), 65 GPIO4 (io), 66 GPIO5 (io), 76 RESERVED, 77 RESERVED, 78 RESERVED, 85 GPIO6 (io), 86 GPIO7 (io), 87 GPIO8 (io), 88 GPIO9 (io), 92 RESERVED, 93 RESERVED, 94 RESERVED, 95 RESERVED, 97 RESERVED, 98 RESERVED, 99 RESERVED
part F pins: 42 USIM_DET (in), 43 USIM_VDD (power), 44 USIM_RST (out), 45 USIM_DATA (io), 46 USIM_CLK (out), 47 USIM_GND (power)
part A text: Status Indication; USB; I2C (extern. codec); Generic RF  ctrlr; ADC; PCM; Other; Do not pull PWRKEY; down to GND permanently.
part B text: UART; Main; DEBUG; GNSS
part C text: RF; 50 Ohm matching; If unused, keep this  pin open.
part D text: POWER
part E text: MISC
part F text: U_SIM

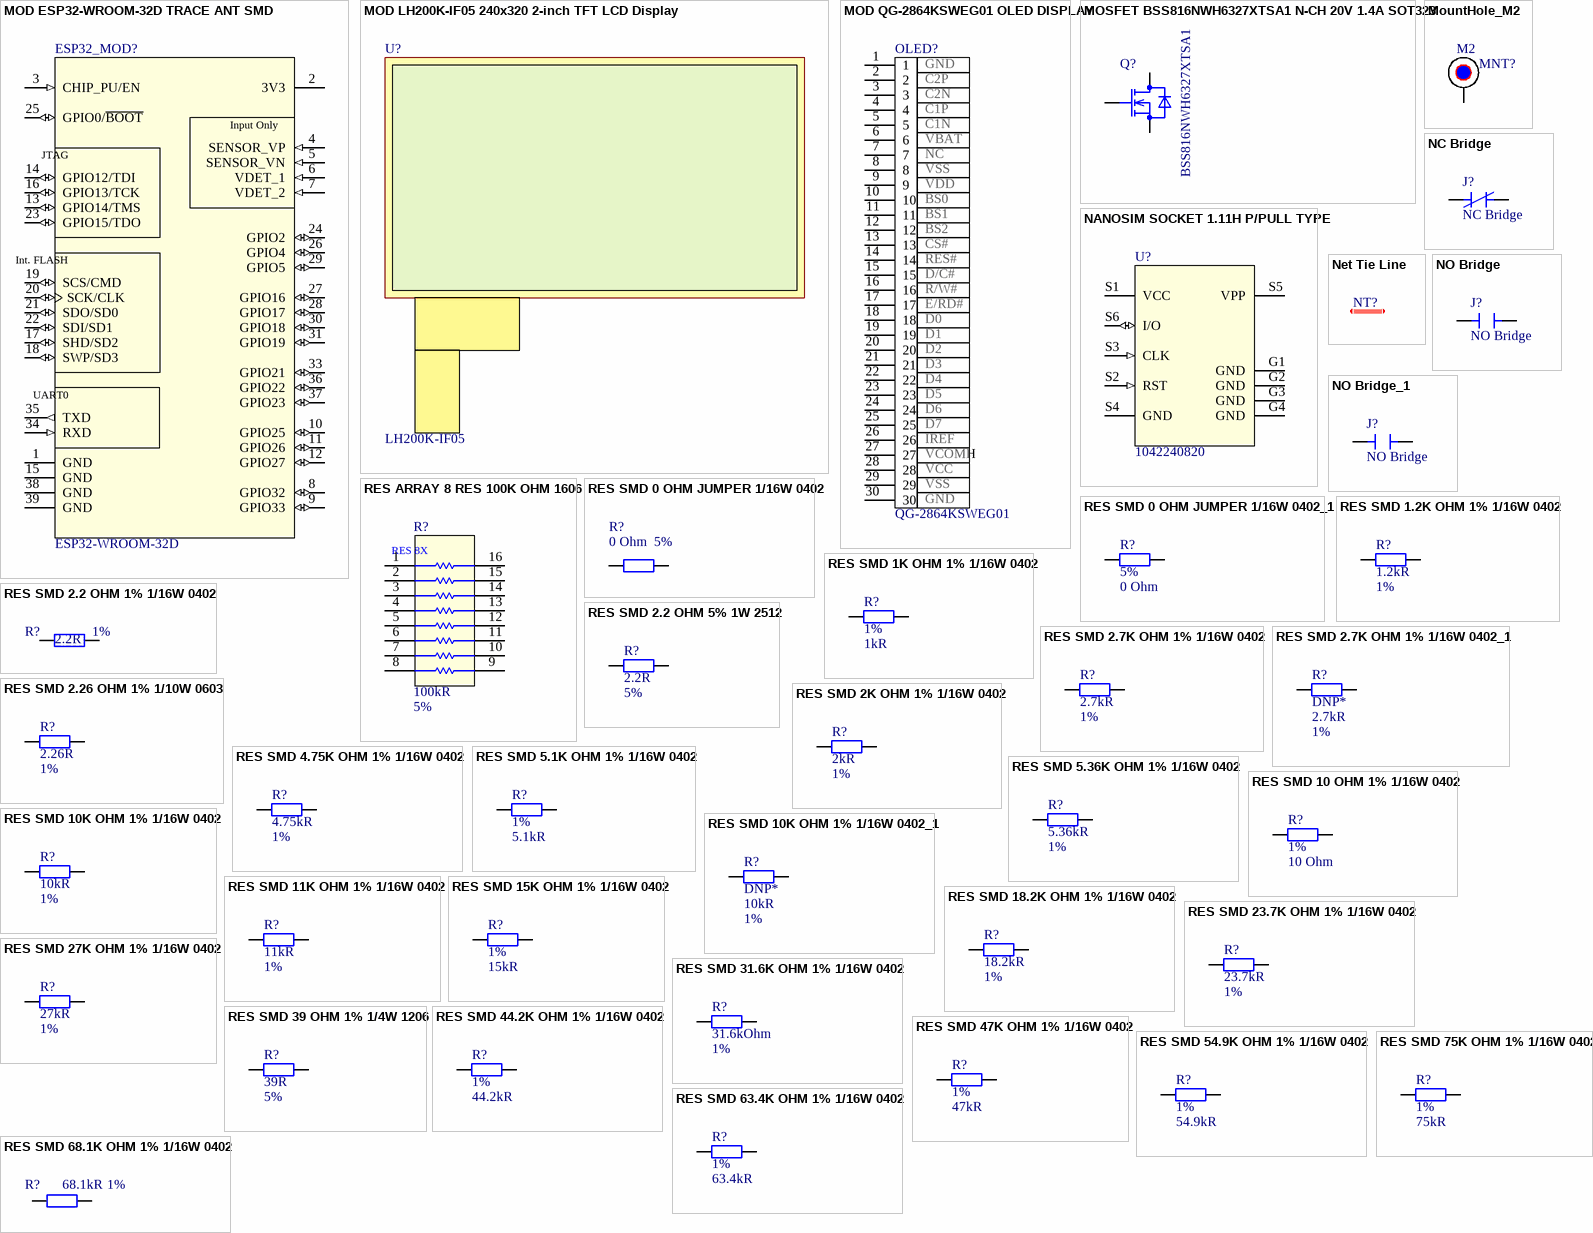
[diagram p4: symbols MOD ESP32-WROOM-32D TRACE ANT SMD to RES SMD 75K OHM 1% 1/16W 0402]

## MOD ESP32-WROOM-32D TRACE ANT SMD
designator ESP32_MOD?, comment ESP32-WROOM-32D
Bluetooth, WiFi 802.11b/g/n, Bluetooth v4.2 + EDR, Class 1, 2 and 3 Transceiver Module 2.4GHz ~ 2.5GHz Integrated, Trace Surface Mount; Manufacturer: Espressif Systems; Interface: I2C,SPI,GPIO,PWM,SDIO,UART; Data Rate: 150Mbps; Sensitivity: -98dBm; Memory Size: 536KB; Case/Package: SMD/SMT; Supplier 1: Digi-Key; Manufacturer Part Number: ESP32-WROOM-32D; Stock 1: 11163; Pricing 1: 1=3.8 (USD); Mount: Surface Mount; Min Operating Temperature: -40°C; Max Operating Temperature: 85°C; Packaging: Cut Tape; Frequency: 2.5GHz; ComponentLink1URL: https://www.espressif.com/sites/default/files/documentation/esp32-wroom-32d_esp32-wroom-32u_datasheet_en.pdf?src-supplier=Digi-Key; ComponentLink1Description: https://www.espressif.com/sites/default/files/documentation/esp32-wroom-32d_esp32-wroom-32u_datasheet_en.pdf?src-supplier=Digi-Key; Supplier Part Number 1: 1904-1023-1-ND
footprint MODULE_ESP32-WROOM-32D
pins: 1 GND (power), 2 3V3 (power), 3 CHIP_PU/EN (in), 4 SENSOR_VP (in), 5 SENSOR_VN (in), 6 VDET_1 (in), 7 VDET_2 (in), 8 GPIO32 (io), 9 GPIO33 (io), 10 GPIO25 (io), 11 GPIO26 (io), 12 GPIO27 (io), 13 GPIO14/TMS (io), 14 GPIO12/TDI (io), 15 GND (power), 16 GPIO13/TCK (io), 17 SHD/SD2 (io), 18 SWP/SD3 (io), 19 SCS/CMD (io), 20 SCK/CLK (io), 21 SDO/SD0 (io), 22 SDI/SD1 (io), 23 GPIO15/TDO (io), 24 GPIO2 (io), 25 GPIO0/~{BOOT} (io), 26 GPIO4 (io), 27 GPIO16 (io), 28 GPIO17 (io), 29 GPIO5 (io), 30 GPIO18 (io), 31 GPIO19 (io), 33 GPIO21 (io), 34 RXD (in), 35 TXD (out), 36 GPIO22 (io), 37 GPIO23 (io), 38 GND (power), 39 GND (power)
text: Input Only; JTAG; Int. FLASH; UART0

## MOD LH200K-IF05 240x320 2-inch TFT LCD Display
designator U?, comment LH200K-IF05  (mechanical)
2” TFT LCD Display.; Manufacturer: Shenzhen Limito Technology Inc.; Mount: Not Mounted on PCB; Manufacturer Part Number: LH200K-IF05

## MOD QG-2864KSWEG01 OLED DISPLAY
designator OLED?, comment QG-2864KSWEG01  pin_1: GND  pin_2: C2P  pin_3: C2N  pin_4: C1P  pin_5: C1N  pin_6: VBAT  pin_7: NC  pin_8: VSS  pin_9: VDD  pin_10: BS0  pin_11: BS1  pin_12: BS2  pin_13: CS#  pin_14: RES#  pin_15: D/C#  pin_16: R/W#  pin_17: E/RD#  pin_18: D0  pin_19: D1  pin_20: D2  pin_21: D3  pin_22: D4  pin_23: D5  pin_24: D6  pin_25: D7  pin_26: IREF  pin_27: VCOMH  pin_28: VCC
OLED Display Module FPC #LT1306P22 TOP 30P 0.7MM; Manufacturer: Limito Technology Inc.; Number of Columns: 128; Number of Circuits: 30; Manufacturer Part Number: QG-2864KSWEG01; Mount: FPC Soldered on PCB; Min Operating Temperature: -40°C; Max Operating Temperature: 70°C; Number of Rows: 64; Number of Contacts: 30; Pitch: 0.7mm; pin_29: VSS; pin_30: GND
footprint QG-2864KSWEG01_Flipped (Folding Type OLED Display Module)
footprint QG-2864KSWEG01_STRAIGHT (Folding Type OLED Display Module)
pins: 1, 2, 3, 4, 5, 6, 7, 8, 9, 10, 11, 12, 13, 14, 15, 16, 17, 18, 19, 20, 21, 22, 23, 24, 25, 26, 27, 28, 29, 30

## MOSFET BSS816NWH6327XTSA1 N-CH 20V 1.4A SOT323
designator Q?, comment BSS816NWH6327XTSA1
N-Channel 20V 1.4A (Ta) 500mW (Ta) Surface Mount PG-SOT323-3; Manufacturer: Infineon; Rds On Max: 160mR; Rise Time: 9ns; Input Capacitance: 180pF; Turn-On Delay Time: 5.3ns; Turn-Off Delay Time: 11ns; Fall Time: 2.2ns; Threshold Voltage: 550mV; Gate to Source Voltage (Vgs): 8V; Number of Channels: 1; Supplier 1: Digi-Key; Manufacturer Part Number: BSS816NWH6327XTSA1; Stock 1: 12407; Pricing 1: 1=0.37, 10=0.306, 25=0.2564, 100=0.1254, 250=0.1234, 500=0.1046, 1000=0.0727 (USD); Mount: Surface Mount; Case/Package: SOT-323; Number of Pins: 3; Weight: 0.004395oz; Contact Plating: Tin; Min Operating Temperature: -55°C; Max Operating Temperature: 150°C; Packaging: Tape and Reel; Drain to Source Voltage (Vdss): 20V; Max Dual Supply Voltage: 20V; Continuous Drain Current (ID): 1.4A; Max Power Dissipation: 500mW; Drain to Source Breakdown Voltage: 20V; Drain to Source Resistance: 160mR; Package Quantity: 3000; Halogen Free: Halogen Free; REACH SVHC: No SVHC; Lead Free: Lead Free; ComponentLink1URL: http://www.infineon.com/dgdl/BSS816NW_Rev2.3_.pdf?folderId=db3a3043156fd573011622e10b5c1f67&fileId=db3a304335113a6301351e704a2e1332&src-supplier=Avnet; ComponentLink1Description: http://www.infineon.com/dgdl/BSS816NW_Rev2.3_.pdf?folderId=db3a3043156fd573011622e10b5c1f67&fileId=db3a304335113a6301351e704a2e1332&src-supplier=Avnet; ComponentLink2URL: http://www.farnell.com/datasheets/2117725.pdf?src-supplier=Farnell; ComponentLink2Description: http://www.farnell.com/datasheets/2117725.pdf?src-supplier=Farnell; ComponentLink3URL: https://www.infineon.com/dgdl/Infineon-BSS816NW-DS-v02_03-en.pdf?fileId=db3a304335113a6301351e704a2e1332&src-supplier=Digi-Key; ComponentLink3Description: https://www.infineon.com/dgdl/Infineon-BSS816NW-DS-v02_03-en.pdf?fileId=db3a304335113a6301351e704a2e1332&src-supplier=Digi-Key; ComponentLink4URL: http://components.arrow.com/part/dataview/53682469S9650N2051?src-supplier=Arrow; ComponentLink4Description: http://components.arrow.com/part/dataview/53682469S9650N2051?src-supplier=Arrow; ComponentLink5URL: http://www.farnell.com/datasheets/2117725.pdf?src-supplier=Element14; ComponentLink5Description: http://www.farnell.com/datasheets/2117725.pdf?src-supplier=Element14; ComponentLink6URL: http://www.mouser.com/ds/2/196/Infineon-BSS816NW-DS-v02_03-en-522793.pdf?src-supplier=Mouser; ComponentLink6Description: http://www.mouser.com/ds/2/196/Infineon-BSS816NW-DS-v02_03-en-522793.pdf?src-supplier=Mouser; Supplier Part Number 1: BSS816NWH6327XTSA1CT-ND
footprint SOT-323
pins: 1 G, 2 S, 3 D

## MountHole_M2
designator MNT?, comment MountHole M2. Nothing to buy or mount  (value not drawn)  (no BOM)
PCB Mount Hole. There is nothing to buy or mount.
footprint MountHole_M2 (Footprint not found)
pins: 1
text: M2

## NANOSIM SOCKET 1.11H P/PULL TYPE
designator U?, comment 1042240820
6 Position Card Connector NANO SIM Surface Mount, Right Angle Gold; Manufacturer: Molex; Number of Positions: 6; Pitch: 2.54mm; Supplier 1: Digi-Key; Manufacturer Part Number: 1042240820; Stock 1: 10989; Pricing 1: 1=1.31, 10=1.152, 25=1.0844, 50=1.039, 100=0.9939, 250=0.9036, 500=0.8132, 1000=0.7228 (USD); Mount: Surface Mount; Contact Plating: Gold; Number of Rows: 2; Orientation: Right Angle; Connector Type: Connector; Packaging: Tape and Reel; ComponentLink1URL: https://www.molex.com/pdm_docs/sd/1042240820_sd.pdf?src-supplier=Digi-Key; ComponentLink1Description: https://www.molex.com/pdm_docs/sd/1042240820_sd.pdf?src-supplier=Digi-Key; ComponentLink2URL: http://www.molex.com/pdm_docs/sd/1042240820_sd.pdf?src-supplier=Avnet; ComponentLink2Description: http://www.molex.com/pdm_docs/sd/1042240820_sd.pdf?src-supplier=Avnet; Supplier Part Number 1: WM23749CT-ND; ClassName: P109
footprint 1042240820_MOL
pins: G1 GND (power), G2 GND (power), G3 GND (power), G4 GND (power), S1 VCC (power), S2 RST (in), S3 CLK (in), S4 GND (power), S5 VPP (power), S6 I/O (io)

## NC Bridge
designator J?  (net tie, no BOM)
NC PCB Bridge (May be opened by cutting the copper trace); ClassName: 16xIO_3
footprint NC_SolderBridge_0603
footprint NC_SolderBridge_0805
footprint NC_SolderBridge_1206
pins: 1, 2

## Net Tie Line
designator NT?, comment Net Tie  (value not drawn)  (net tie, no BOM)
ClassName: STM32G473CETx
footprint Net Tie 1x3mm
footprint Net Tie 6x30mil
footprint Net Tie 8x30mil
pins: 1, 2

## NO Bridge
designator J?  (no BOM)
NO PCB Bridge (May be closed by a solder blob); ClassName: 16xIO_3
footprint NO_SolderBridge_0603
footprint NO_SolderBridge_0805
footprint NO_SolderBridge_1206
pins: 1, 2

## NO Bridge_1
designator J?, comment NO Bridge  (no BOM)
NO PCB Bridge (May be closed by a solder blob)
footprint NO_SolderBridge_0603
footprint NO_SolderBridge_0805
footprint NO_SolderBridge_1206
pins: 1, 2

## RES ARRAY 8 RES 100K OHM 1606
designator R?  Resistance: 100kR  Tolerance: 5%  (hidden comment: RES ARRAY 8 RES 100K OHM 1606)
100k Ohm ±5% 62.5mW Power Per Element Isolated  Resistor Network/Array ±200ppm/°C 1606, Convex, Long Side Terminals; Manufacturer: Yageo; Manufacturer Part Number: YC248-JR-07100KL; Number of Resistors: 8; Number of Contacts: 16; Voltage Rating: 50V; Supplier 1: Digi-Key; Stock 1: 5800; Pricing 1: 1=0.3, 10=0.251, 25=0.1828, 50=0.1324, 100=0.0982, 250=0.0754, 500=0.0594, 1000=0.0411 (USD); Mount: Surface Mount; Case/Package: 0616; Number of Pins: 16; Number of Terminals: 16; Case Code (Metric): 1640; Case Code (Imperial): 0616; Min Operating Temperature: -55°C; Max Operating Temperature: 155°C; Temperature Coefficient: 200ppm/°C; Power Rating: 62.5mW; Number of Circuits: 8; Number of Elements: 8; Package Quantity: 1; Packaging: Tape and Reel; Circuit Type: Isolated; Power Per Element: 62.5mW; Military Standard: Not; Termination: Convex; Length: 0.157inch; Height: 0.022inch; Width: 0.063inch; Terminal Pitch: 0.5mm; Depth: 1.6mm; REACH SVHC: No SVHC; Lead Free: Lead Free; ComponentLink1URL: https://media.digikey.com/pdf/Data%20Sheets/Yageo%20PDFs/YC102-358,TC122-164_Series_DS.pdf?src-supplier=Digi-Key; ComponentLink1Description: https://media.digikey.com/pdf/Data%20Sheets/Yageo%20PDFs/YC102-358,TC122-164_Series_DS.pdf?src-supplier=Digi-Key; ComponentLink2URL: http://www.yageo.com/documents/recent/PYu-YC248_51_RoHS_L_2.pdf?src-supplier=Digi-Key; ComponentLink2Description: http://www.yageo.com/documents/recent/PYu-YC248_51_RoHS_L_2.pdf?src-supplier=Digi-Key; ComponentLink3URL: http://www.yageo.com/NewPortal/yageodocoutput?fileName=/pdf/R-Chip/PYu-YC_TC_group_51_RoHS_L_0.pdf&src-supplier=Digi-Key; ComponentLink3Description: http://www.yageo.com/NewPortal/yageodocoutput?fileName=/pdf/R-Chip/PYu-YC_TC_group_51_RoHS_L_0.pdf&src-supplier=Digi-Key; ComponentLink4URL: http://www.yageo.com/documents/recent/PYu-YC248_51_RoHS_L_(2).pdf?src-supplier=Avnet+Europe; ComponentLink4Description: http://www.yageo.com/documents/recent/PYu-YC248_51_RoHS_L_(2).pdf?src-supplier=Avnet+Europe; Supplier Part Number 1: YC248J-100KCT-ND; Voltage Rating (DC): 50V; Composition: Thick Film; Radiation Hardening: No; ComponentLink5URL: http://www.farnell.com/datasheets/443139.pdf?src-supplier=Element14; ComponentLink5Description: http://www.farnell.com/datasheets/443139.pdf?src-supplier=Element14; ClassName: 16xIO_3
footprint YAG_YC248
pins: 1 11, 2 12, 3 13, 4 14, 5 15, 6 16, 7 17, 8 18, 9 19, 10 110, 11 111, 12 112, 13 113, 14 114, 15 115, 16 116
text: RES 8X

## RES SMD 0 OHM JUMPER 1/16W 0402
designator R?  Tolerance: 5%  Resistance: 0 Ohm  (hidden comment: RES SMD 0 OHM JUMPER 1/16W 0402)
0 Ohms Jumper 0.063W, 1/16W Chip Resistor 0402 (1005 Metric) Moisture Resistant Thick Film; Manufacturer: Yageo; Manufacturer Part Number: RC0402JR-070RL; Power Rating: 62.5mW; Voltage Rating: 50V; Max Power Dissipation: 63mW; Temperature Coefficient: 200ppm/°C; Supplier 1: Digi-Key; Stock 1: 46057148; Pricing 1: 1=0.1, 10=0.013, 25=0.0092, 50=0.0072, 100=0.0053, 250=0.004, 500=0.0032, 1000=0.0024, 5000=0.0017 (USD); Contact Plating: Tin,Matte; Case Code (Metric): 1005; Case Code (Imperial): 0402; Min Operating Temperature: -55°C; Max Operating Temperature: 155°C; Packaging: Tape and Reel; Composition: Thick Film; Package Quantity: 1; Number of Terminations: 2; Termination: SMD/SMT; Military Standard: Not; Features: Moisture Resistant; Length: 1mm; Height: 0.016inch; Width: 0.02inch; Depth: 0.5mm; Radiation Hardening: No; REACH SVHC: Unknown; Lead Free: Lead Free; ComponentLink1URL: http://www.yageo.com/documents/recent/PYu-RC_Group_51_RoHS_L_10.pdf?src-supplier=Digi-Key; ComponentLink1Description: http://www.yageo.com/documents/recent/PYu-RC_Group_51_RoHS_L_10.pdf?src-supplier=Digi-Key; ComponentLink2URL: http://www.yageo.com/documents/recent/PYu-RC0402_51_RoHS_L_6.pdf?src-supplier=Avnet+Europe; ComponentLink2Description: http://www.yageo.com/documents/recent/PYu-RC0402_51_RoHS_L_6.pdf?src-supplier=Avnet+Europe; ComponentLink3URL: http://www.farnell.com/datasheets/1018594.pdf?src-supplier=Element14; ComponentLink3Description: http://www.farnell.com/datasheets/1018594.pdf?src-supplier=Element14; ComponentLink4URL: https://www.verical.com/server-webapp/html/getDatasheet?partID=326379&src-supplier=Verical; ComponentLink4Description: https://www.verical.com/server-webapp/html/getDatasheet?partID=326379&src-supplier=Verical; ComponentLink5URL: http://www.farnell.com/datasheets/2167052.pdf?src-supplier=Element14; ComponentLink5Description: http://www.farnell.com/datasheets/2167052.pdf?src-supplier=Element14; Supplier Part Number 1: 311-0.0JRCT-ND; Case/Package: 0402; ClassName: USB_SW; Mount: Surface Mount
footprint 0402R
footprint R0402
pins: 1, 2

## RES SMD 0 OHM JUMPER 1/16W 0402_1
designator R?, comment Tolerance: 5%  Resistance: 0 Ohm  (hidden comment: DNP*)
0 Ohms Jumper 0.063W, 1/16W Chip Resistor 0402 (1005 Metric) Moisture Resistant Thick Film; Manufacturer: Yageo; Manufacturer Part Number: RC0402JR-070RL; Power Rating: 62.5mW; Voltage Rating: 50V; Max Power Dissipation: 63mW; Temperature Coefficient: 200ppm/°C; Case/Package: 0402; Supplier 1: Digi-Key; Stock 1: 46057148; Pricing 1: 1=0.1, 10=0.013, 25=0.0092, 50=0.0072, 100=0.0053, 250=0.004, 500=0.0032, 1000=0.0024, 5000=0.0017 (USD); Contact Plating: Tin,Matte; Case Code (Metric): 1005; Case Code (Imperial): 0402; Min Operating Temperature: -55°C; Max Operating Temperature: 155°C; Packaging: Tape and Reel; Composition: Thick Film; Package Quantity: 1; Number of Terminations: 2; Termination: SMD/SMT; Military Standard: Not; Features: Moisture Resistant; Length: 1mm; Height: 0.016inch; Width: 0.02inch; Depth: 0.5mm; Radiation Hardening: No; REACH SVHC: Unknown; Lead Free: Lead Free; ComponentLink1URL: http://www.yageo.com/documents/recent/PYu-RC_Group_51_RoHS_L_10.pdf?src-supplier=Digi-Key; ComponentLink1Description: http://www.yageo.com/documents/recent/PYu-RC_Group_51_RoHS_L_10.pdf?src-supplier=Digi-Key; ComponentLink2URL: http://www.yageo.com/documents/recent/PYu-RC0402_51_RoHS_L_6.pdf?src-supplier=Avnet+Europe; ComponentLink2Description: http://www.yageo.com/documents/recent/PYu-RC0402_51_RoHS_L_6.pdf?src-supplier=Avnet+Europe; ComponentLink3URL: http://www.farnell.com/datasheets/1018594.pdf?src-supplier=Element14; ComponentLink3Description: http://www.farnell.com/datasheets/1018594.pdf?src-supplier=Element14; ComponentLink4URL: https://www.verical.com/server-webapp/html/getDatasheet?partID=326379&src-supplier=Verical; ComponentLink4Description: https://www.verical.com/server-webapp/html/getDatasheet?partID=326379&src-supplier=Verical; ComponentLink5URL: http://www.farnell.com/datasheets/2167052.pdf?src-supplier=Element14; ComponentLink5Description: http://www.farnell.com/datasheets/2167052.pdf?src-supplier=Element14; Supplier Part Number 1: 311-0.0JRCT-ND; ClassName: U_TS3USBCA410_USB_C_SBU_Multiplexer; Mount: Surface Mount
footprint 0402R
footprint R0402
pins: 1, 2